# Altium integrated library Linear Technology Power Management Hot Swap Controllers.IntLib: 992 symbols (part 55 of 93)
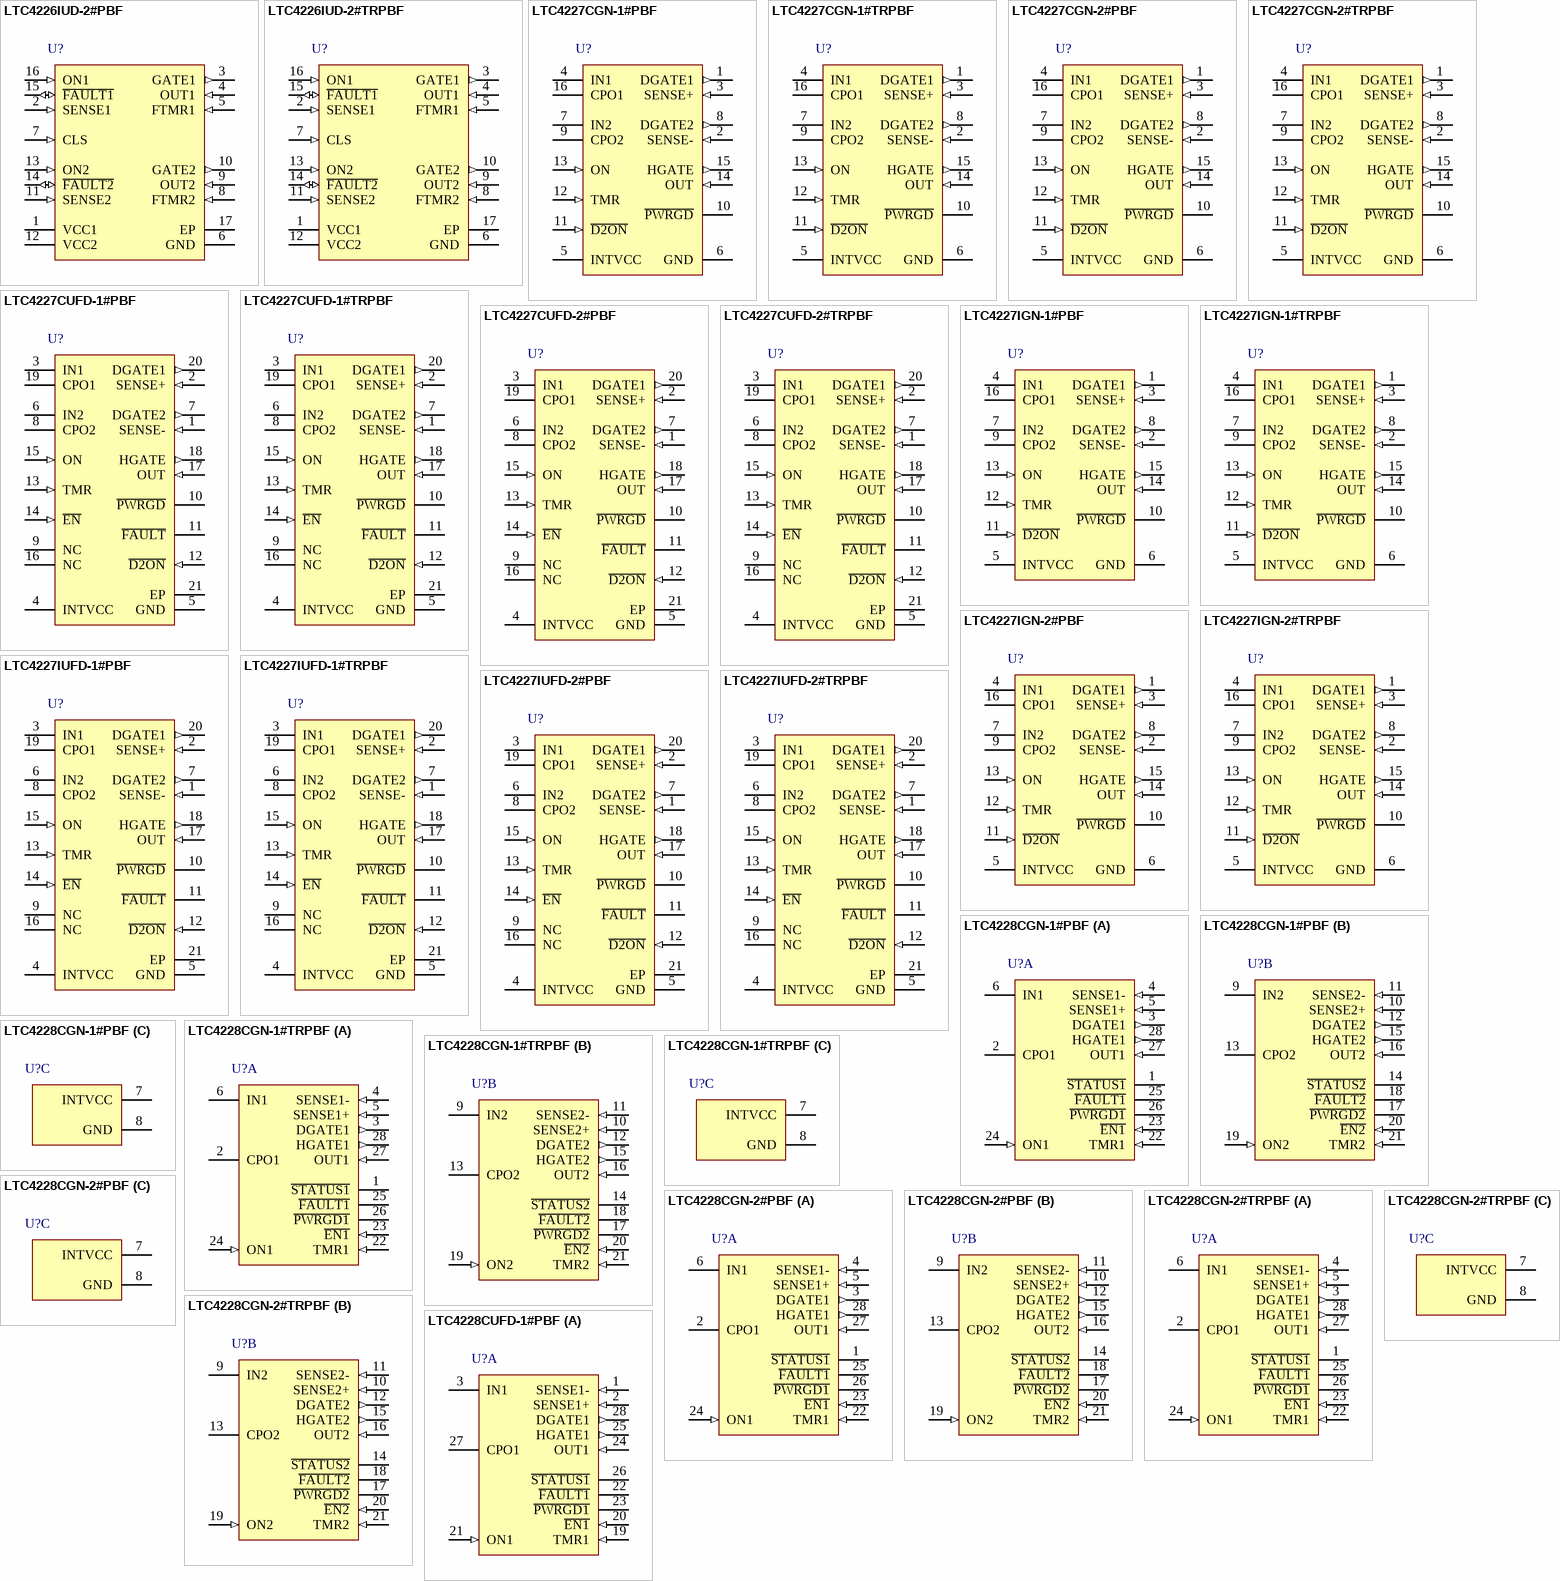
[diagram p91: symbols LTC4226IUD-2#PBF to LTC4228CUFD-1#PBF]

## LTC4228CGN-2#PBF
designator U?
Dual Ideal Diode and Hot Swap Controller, 2.9 to 18 V Vin, 28-pin SOP (GN-28), 0 to 70 degC, Pb-Free; Manufacturer: Linear Technology; PartNumber: LTC4228CGN-2#PBF; Active Limiting: yes; Circuit Breaker Threshold: 50 mV; Extended Temp: C, I; Foldback: no; PackageVersion: Rev. B, 03/2012; PackageReference: GN-28; PackageDescription: 28-Pin Plastic SSOP, Body 9.9 x 3.9 mm, Pitch 0.635 mm; Supplier 1: Digi-Key; Supplier Part Number 1: LTC4228CGN-2#PBF-ND; Supplier 2: Newark; Supplier Part Number 2: 44W6821; Fast Comparator: yes; Fault: yes; Power Good: yes; Reset: no; RoHS: TRUE; Vin Range: 2.9 to 18 V; Mounting Technology: Surface Mount; ComponentLink1Description: Manufacturer URL; ComponentLink1URL: http://www.linear.com/; ComponentLink2Description: Datasheet; ComponentLink2URL: http://cds.linear.com/docs/en/datasheet/422812f.pdf; ComponentLink3Description: Package Specification; ComponentLink3URL: http://cds.linear.com/docs/en/packaging/05081641_B_GN28.pdf
footprint LT-GN-28_N (SOP, 28-Leads, Body 9.98x3.98mm, Pitch 0.635mm, IPC Medium Density)
footprint LT-GN-28_L (SOP, 28-Leads, Body 9.98x3.98mm, Pitch 0.635mm, IPC High Density)
footprint LT-GN-28_M (SOP, 28-Leads, Body 9.98x3.98mm, Pitch 0.635mm, IPC Low Density)
part A pins: 1 ~{STATUS1} (oc) "Diode MOSFET Status Output. Open-drain output that is normally pulled high by a 10uA current source to a diode below INTVCC. It may be pulled above INTVCC using an external pull-up. It pulls low when the MOSFET gate drive (See Datasheet)", 2 CPO1 "Charge Pump Output. Connect a capacitor from CPO1 or CPO2 to the corresponding IN1 or IN2 pin. The value of this capacitor is approximately 10x the gate capacitance (CISS) of the external MOSFET for ideal diode control. The (See Datasheet)", 3 DGATE1 (out) "Ideal Diode MOSFET Gate Drive Output. Connect this pin to the gate of an external N-channel MOSFET for ideal diode control. An internal clamp limits the gate voltage to 12V above and a diode voltage below IN. During fast (See Datasheet)", 4 SENSE1- (in) "Negative Current Sense Input. Connect this pin to the output of the current sense resistor. The current limit circuit controls HGATE to limit the voltage between SENSE+ and SENSE- to 65mV. A circuit breaker trips when the (See Datasheet)", 5 SENSE1+ (in) "Positive Current Sense Input. Connect this pin to the output of the external ideal diode MOSFET and input of the current sense resistor. The voltage sensed at this pin is used for monitoring the current limit. This pin has (See Datasheet)", 6 IN1 (power) "Positive Supply Input and Ideal Diode’s MOSFET Gate Drive Return. The 5V INTVCC supply is generated from IN1, IN2, OUT1 and OUT2 via an internal diode-OR. The voltage sensed at this pin is used to control DGATE for forwar(See Datasheet)", 22 TMR1 (in) "Timer Capacitor Terminal. Connect a capacitor between this pin and ground to set a 12ms/uF duration for current limit before the external Hot Swap MOSFET is turned off. The duration of the off time is 617ms/uF, resulting in (See Datasheet)", 23 ~{EN1} (in) "Enable Input. Ground this pin to enable Hot Swap control. If this pin is pulled high, the MOSFET is not allowed to turn on. A 10uA current source pulls this pin up to a diode below INTVCC. Upon E\N\ going low when ON is (See Datasheet)", 24 ON1 (in) "On Control Input. A rising edge above 1.235V turns on the external Hot Swap MOSFET and a falling edge below 1.155V turns it off. Connect this pin to an external resistive divider from IN or SENSE+ to monitor the supply (See Datasheet)", 25 ~{FAULT1} (oc) "Fault Status Output. Open-drain output that is normally pulled high by a 10uA current source to a diode below INTVCC. It may be pulled above INTVCC using an external pull-up. It pulls low when the circuit breaker is tripped (See Datasheet)", 26 ~{PWRGD1} (oc) "Power Status Output. Open-drain output that is normally pulled high by a 10uA current source to a diode below INTVCC. It may be pulled above INTVCC using an external pull-up. It pulls low when the MOSFET gate drive between (See Datasheet)", 27 OUT1 (in) "Output Voltage Sense and Hot Swap’s MOSFET Gate Drive Return. Connect this pin to the output side of the external MOSFET. The voltage sensed at this pin is used to control DGATE. The gate fast pull-down current return(See Datasheet)", 28 HGATE1 (out) "Hot Swap MOSFET Gate Drive Output. Connect this pin to the gate of the external N-channel MOSFET for Hot Swap control. An internal 10uA current source charges the MOSFET gate. An internal clamp limits the gate voltage to 12V (See Datasheet)"
part B pins: 9 IN2 (power) "Positive Supply Input and Ideal Diode’s MOSFET Gate Drive Return. The 5V INTVCC supply is generated from IN1, IN2, OUT1 and OUT2 via an internal diode-OR. The voltage sensed at this pin is used to control DGATE for forwar(See Datasheet)", 10 SENSE2+ (in) "Positive Current Sense Input. Connect this pin to the output of the external ideal diode MOSFET and input of the current sense resistor. The voltage sensed at this pin is used for monitoring the current limit. This pin has (See Datasheet)", 11 SENSE2- (in) "Negative Current Sense Input. Connect this pin to the output of the current sense resistor. The current limit circuit controls HGATE to limit the voltage between SENSE+ and SENSE- to 65mV. A circuit breaker trips when the (See Datasheet)", 12 DGATE2 (out) "Ideal Diode MOSFET Gate Drive Output. Connect this pin to the gate of an external N-channel MOSFET for ideal diode control. An internal clamp limits the gate voltage to 12V above and a diode voltage below IN. During fast (See Datasheet)", 13 CPO2 "Charge Pump Output. Connect a capacitor from CPO1 or CPO2 to the corresponding IN1 or IN2 pin. The value of this capacitor is approximately 10x the gate capacitance (CISS) of the external MOSFET for ideal diode control. The (See Datasheet)", 14 ~{STATUS2} (oc) "Diode MOSFET Status Output. Open-drain output that is normally pulled high by a 10uA current source to a diode below INTVCC. It may be pulled above INTVCC using an external pull-up. It pulls low when the MOSFET gate drive (See Datasheet)", 15 HGATE2 (out) "Hot Swap MOSFET Gate Drive Output. Connect this pin to the gate of the external N-channel MOSFET for Hot Swap control. An internal 10uA current source charges the MOSFET gate. An internal clamp limits the gate voltage to 12V (See Datasheet)", 16 OUT2 (in) "Output Voltage Sense and Hot Swap’s MOSFET Gate Drive Return. Connect this pin to the output side of the external MOSFET. The voltage sensed at this pin is used to control DGATE. The gate fast pull-down current return(See Datasheet)", 17 ~{PWRGD2} (oc) "Power Status Output. Open-drain output that is normally pulled high by a 10uA current source to a diode below INTVCC. It may be pulled above INTVCC using an external pull-up. It pulls low when the MOSFET gate drive between (See Datasheet)", 18 ~{FAULT2} (oc) "Fault Status Output. Open-drain output that is normally pulled high by a 10uA current source to a diode below INTVCC. It may be pulled above INTVCC using an external pull-up. It pulls low when the circuit breaker is tripped (See Datasheet)", 19 ON2 (in) "On Control Input. A rising edge above 1.235V turns on the external Hot Swap MOSFET and a falling edge below 1.155V turns it off. Connect this pin to an external resistive divider from IN or SENSE+ to monitor the supply (See Datasheet)", 20 ~{EN2} (in) "Enable Input. Ground this pin to enable Hot Swap control. If this pin is pulled high, the MOSFET is not allowed to turn on. A 10uA current source pulls this pin up to a diode below INTVCC. Upon E\N\ going low when ON is (See Datasheet)", 21 TMR2 (in) "Timer Capacitor Terminal. Connect a capacitor between this pin and ground to set a 12ms/uF duration for current limit before the external Hot Swap MOSFET is turned off. The duration of the off time is 617ms/uF, resulting in (See Datasheet)"
part C pins: 7 INTVCC (power) "Internal 5V Supply Decoupling Output. This pin must have a 0.1uF or larger capacitor. An external load of less than 500uA can be connected at this pin.", 8 GND (power) "Device Ground"

## LTC4228CGN-2#TRPBF
designator U?
Dual Ideal Diode and Hot Swap Controller, 2.9 to 18 V Vin, 28-pin SOP (GN-28), 0 to 70 degC, Pb-Free, Tape and Reel; Manufacturer: Linear Technology; PartNumber: LTC4228CGN-2#TRPBF; Active Limiting: yes; Circuit Breaker Threshold: 50 mV; Extended Temp: C, I; Foldback: no; PackageVersion: Rev. B, 03/2012; PackageReference: GN-28; PackageDescription: 28-Pin Plastic SSOP, Body 9.9 x 3.9 mm, Pitch 0.635 mm; Supplier 1: Digi-Key; Supplier Part Number 1: LTC4228CGN-2#TRPBF-ND; Supplier 2: Newark; Supplier Part Number 2: 44W6822; Fast Comparator: yes; Fault: yes; Packing: Tape and Reel; Power Good: yes; Reset: no; RoHS: TRUE; Vin Range: 2.9 to 18 V; Mounting Technology: Surface Mount; ComponentLink1Description: Manufacturer URL; ComponentLink1URL: http://www.linear.com/; ComponentLink2Description: Datasheet; ComponentLink2URL: http://cds.linear.com/docs/en/datasheet/422812f.pdf; ComponentLink3Description: Package Specification; ComponentLink3URL: http://cds.linear.com/docs/en/packaging/05081641_B_GN28.pdf
footprint LT-GN-28_N (SOP, 28-Leads, Body 9.98x3.98mm, Pitch 0.635mm, IPC Medium Density)
footprint LT-GN-28_L (SOP, 28-Leads, Body 9.98x3.98mm, Pitch 0.635mm, IPC High Density)
footprint LT-GN-28_M (SOP, 28-Leads, Body 9.98x3.98mm, Pitch 0.635mm, IPC Low Density)
part A pins: 1 ~{STATUS1} (oc) "Diode MOSFET Status Output. Open-drain output that is normally pulled high by a 10uA current source to a diode below INTVCC. It may be pulled above INTVCC using an external pull-up. It pulls low when the MOSFET gate drive (See Datasheet)", 2 CPO1 "Charge Pump Output. Connect a capacitor from CPO1 or CPO2 to the corresponding IN1 or IN2 pin. The value of this capacitor is approximately 10x the gate capacitance (CISS) of the external MOSFET for ideal diode control. The (See Datasheet)", 3 DGATE1 (out) "Ideal Diode MOSFET Gate Drive Output. Connect this pin to the gate of an external N-channel MOSFET for ideal diode control. An internal clamp limits the gate voltage to 12V above and a diode voltage below IN. During fast (See Datasheet)", 4 SENSE1- (in) "Negative Current Sense Input. Connect this pin to the output of the current sense resistor. The current limit circuit controls HGATE to limit the voltage between SENSE+ and SENSE- to 65mV. A circuit breaker trips when the (See Datasheet)", 5 SENSE1+ (in) "Positive Current Sense Input. Connect this pin to the output of the external ideal diode MOSFET and input of the current sense resistor. The voltage sensed at this pin is used for monitoring the current limit. This pin has (See Datasheet)", 6 IN1 (power) "Positive Supply Input and Ideal Diode’s MOSFET Gate Drive Return. The 5V INTVCC supply is generated from IN1, IN2, OUT1 and OUT2 via an internal diode-OR. The voltage sensed at this pin is used to control DGATE for forwar(See Datasheet)", 22 TMR1 (in) "Timer Capacitor Terminal. Connect a capacitor between this pin and ground to set a 12ms/uF duration for current limit before the external Hot Swap MOSFET is turned off. The duration of the off time is 617ms/uF, resulting in (See Datasheet)", 23 ~{EN1} (in) "Enable Input. Ground this pin to enable Hot Swap control. If this pin is pulled high, the MOSFET is not allowed to turn on. A 10uA current source pulls this pin up to a diode below INTVCC. Upon E\N\ going low when ON is (See Datasheet)", 24 ON1 (in) "On Control Input. A rising edge above 1.235V turns on the external Hot Swap MOSFET and a falling edge below 1.155V turns it off. Connect this pin to an external resistive divider from IN or SENSE+ to monitor the supply (See Datasheet)", 25 ~{FAULT1} (oc) "Fault Status Output. Open-drain output that is normally pulled high by a 10uA current source to a diode below INTVCC. It may be pulled above INTVCC using an external pull-up. It pulls low when the circuit breaker is tripped (See Datasheet)", 26 ~{PWRGD1} (oc) "Power Status Output. Open-drain output that is normally pulled high by a 10uA current source to a diode below INTVCC. It may be pulled above INTVCC using an external pull-up. It pulls low when the MOSFET gate drive between (See Datasheet)", 27 OUT1 (in) "Output Voltage Sense and Hot Swap’s MOSFET Gate Drive Return. Connect this pin to the output side of the external MOSFET. The voltage sensed at this pin is used to control DGATE. The gate fast pull-down current return(See Datasheet)", 28 HGATE1 (out) "Hot Swap MOSFET Gate Drive Output. Connect this pin to the gate of the external N-channel MOSFET for Hot Swap control. An internal 10uA current source charges the MOSFET gate. An internal clamp limits the gate voltage to 12V (See Datasheet)"
part B pins: 9 IN2 (power) "Positive Supply Input and Ideal Diode’s MOSFET Gate Drive Return. The 5V INTVCC supply is generated from IN1, IN2, OUT1 and OUT2 via an internal diode-OR. The voltage sensed at this pin is used to control DGATE for forwar(See Datasheet)", 10 SENSE2+ (in) "Positive Current Sense Input. Connect this pin to the output of the external ideal diode MOSFET and input of the current sense resistor. The voltage sensed at this pin is used for monitoring the current limit. This pin has (See Datasheet)", 11 SENSE2- (in) "Negative Current Sense Input. Connect this pin to the output of the current sense resistor. The current limit circuit controls HGATE to limit the voltage between SENSE+ and SENSE- to 65mV. A circuit breaker trips when the (See Datasheet)", 12 DGATE2 (out) "Ideal Diode MOSFET Gate Drive Output. Connect this pin to the gate of an external N-channel MOSFET for ideal diode control. An internal clamp limits the gate voltage to 12V above and a diode voltage below IN. During fast (See Datasheet)", 13 CPO2 "Charge Pump Output. Connect a capacitor from CPO1 or CPO2 to the corresponding IN1 or IN2 pin. The value of this capacitor is approximately 10x the gate capacitance (CISS) of the external MOSFET for ideal diode control. The (See Datasheet)", 14 ~{STATUS2} (oc) "Diode MOSFET Status Output. Open-drain output that is normally pulled high by a 10uA current source to a diode below INTVCC. It may be pulled above INTVCC using an external pull-up. It pulls low when the MOSFET gate drive (See Datasheet)", 15 HGATE2 (out) "Hot Swap MOSFET Gate Drive Output. Connect this pin to the gate of the external N-channel MOSFET for Hot Swap control. An internal 10uA current source charges the MOSFET gate. An internal clamp limits the gate voltage to 12V (See Datasheet)", 16 OUT2 (in) "Output Voltage Sense and Hot Swap’s MOSFET Gate Drive Return. Connect this pin to the output side of the external MOSFET. The voltage sensed at this pin is used to control DGATE. The gate fast pull-down current return(See Datasheet)", 17 ~{PWRGD2} (oc) "Power Status Output. Open-drain output that is normally pulled high by a 10uA current source to a diode below INTVCC. It may be pulled above INTVCC using an external pull-up. It pulls low when the MOSFET gate drive between (See Datasheet)", 18 ~{FAULT2} (oc) "Fault Status Output. Open-drain output that is normally pulled high by a 10uA current source to a diode below INTVCC. It may be pulled above INTVCC using an external pull-up. It pulls low when the circuit breaker is tripped (See Datasheet)", 19 ON2 (in) "On Control Input. A rising edge above 1.235V turns on the external Hot Swap MOSFET and a falling edge below 1.155V turns it off. Connect this pin to an external resistive divider from IN or SENSE+ to monitor the supply (See Datasheet)", 20 ~{EN2} (in) "Enable Input. Ground this pin to enable Hot Swap control. If this pin is pulled high, the MOSFET is not allowed to turn on. A 10uA current source pulls this pin up to a diode below INTVCC. Upon E\N\ going low when ON is (See Datasheet)", 21 TMR2 (in) "Timer Capacitor Terminal. Connect a capacitor between this pin and ground to set a 12ms/uF duration for current limit before the external Hot Swap MOSFET is turned off. The duration of the off time is 617ms/uF, resulting in (See Datasheet)"
part C pins: 7 INTVCC (power) "Internal 5V Supply Decoupling Output. This pin must have a 0.1uF or larger capacitor. An external load of less than 500uA can be connected at this pin.", 8 GND (power) "Device Ground"

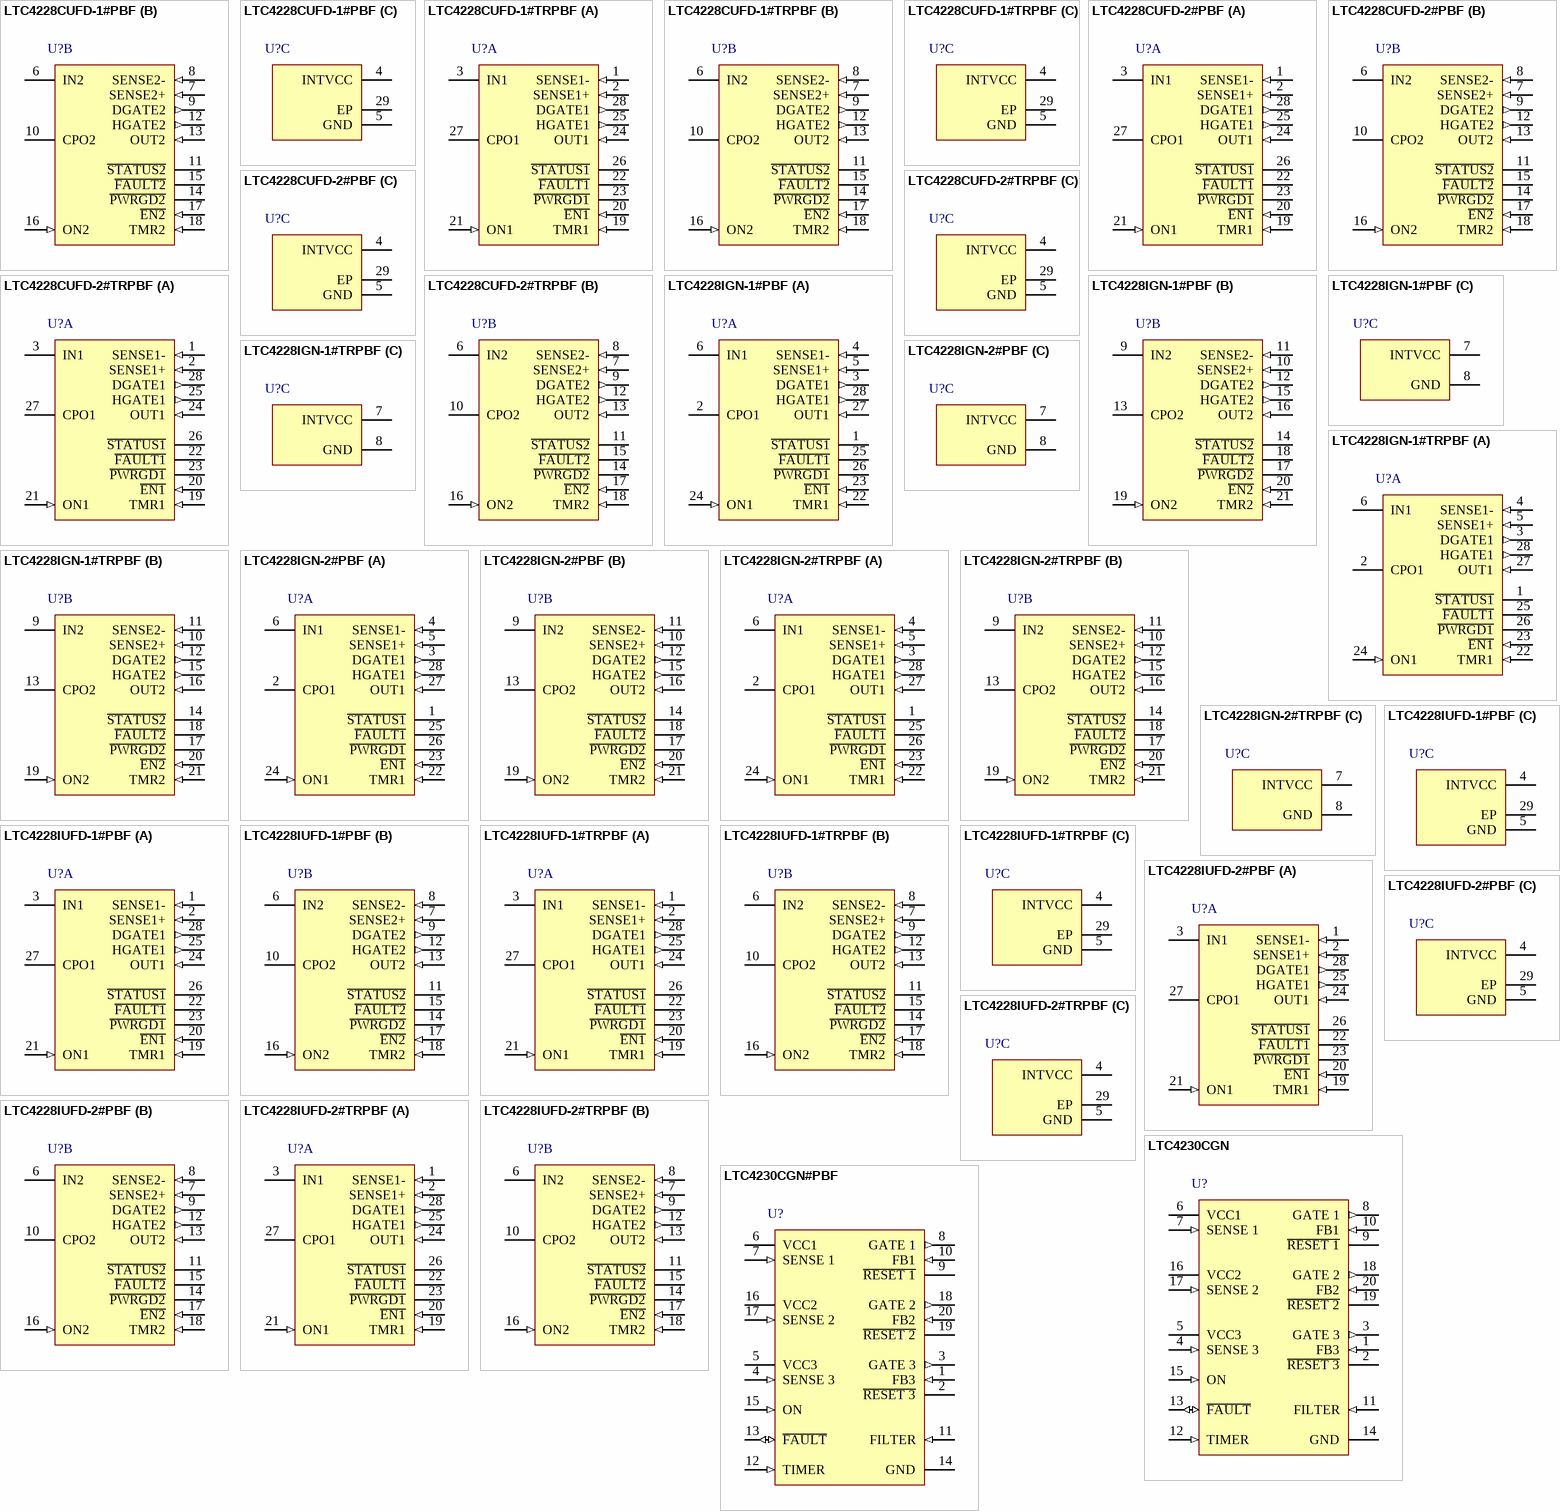
[diagram p22: symbols LTC4228CUFD-1#PBF to LTC4230CGN#PBF]

## LTC4228CUFD-1#PBF
designator U?
Dual Ideal Diode and Hot Swap Controller, 2.9 to 18 V Vin, 28-pin QFN (UFD-28), 0 to 70 degC, Pb-Free; Manufacturer: Linear Technology; PartNumber: LTC4228CUFD-1#PBF; Active Limiting: yes; Circuit Breaker Threshold: 50 mV; Extended Temp: C, I; Foldback: no; PackageVersion: Rev. B, 06/2010; PackageReference: UFD-28; PackageDescription: 28-Pin Plastic QFN, Body 5 x 4 mm, Pitch 0.5 mm; Supplier 1: Digi-Key; Supplier Part Number 1: LTC4228CUFD-1#PBF-ND; Supplier 2: Newark; Supplier Part Number 2: 44W6823; Fast Comparator: yes; Fault: yes; Power Good: yes; Reset: no; RoHS: TRUE; Vin Range: 2.9 to 18 V; Mounting Technology: Surface Mount; Code_JEDEC: MO-220; ComponentLink1Description: Manufacturer URL; ComponentLink1URL: http://www.linear.com/; ComponentLink2Description: Datasheet; ComponentLink2URL: http://cds.linear.com/docs/en/datasheet/422812f.pdf; ComponentLink3Description: Package Specification; ComponentLink3URL: http://cds.linear.com/docs/en/packaging/QFN_28_05-08-1712.pdf
footprint LT-UFD-28_N (QFN, 28-Leads, Body 5.1x4.1mm, Pitch 0.5mm, Thermal Pad 3.65x2.65mm, IPC Medium Density)
footprint LT-UFD-28_L (QFN, 28-Leads, Body 5.1x4.1mm, Pitch 0.5mm, Thermal Pad 3.65x2.65mm, IPC High Density)
footprint LT-UFD-28_M (QFN, 28-Leads, Body 5.1x4.1mm, Pitch 0.5mm, Thermal Pad 3.65x2.65mm, IPC Low Density)
part A pins: 1 SENSE1- (in) "Negative Current Sense Input. Connect this pin to the output of the current sense resistor. The current limit circuit controls HGATE to limit the voltage between SENSE+ and SENSE- to 65mV. A circuit breaker trips when the (See Datasheet)", 2 SENSE1+ (in) "Positive Current Sense Input. Connect this pin to the output of the external ideal diode MOSFET and input of the current sense resistor. The voltage sensed at this pin is used for monitoring the current limit. This pin has (See Datasheet)", 3 IN1 (power) "Positive Supply Input and Ideal Diode’s MOSFET Gate Drive Return. The 5V INTVCC supply is generated from IN1, IN2, OUT1 and OUT2 via an internal diode-OR. The voltage sensed at this pin is used to control DGATE for forwar(See Datasheet)", 19 TMR1 (in) "Timer Capacitor Terminal. Connect a capacitor between this pin and ground to set a 12ms/uF duration for current limit before the external Hot Swap MOSFET is turned off. The duration of the off time is 617ms/uF, resulting in (See Datasheet)", 20 ~{EN1} (in) "Enable Input. Ground this pin to enable Hot Swap control. If this pin is pulled high, the MOSFET is not allowed to turn on. A 10uA current source pulls this pin up to a diode below INTVCC. Upon E\N\ going low when ON is (See Datasheet)", 21 ON1 (in) "On Control Input. A rising edge above 1.235V turns on the external Hot Swap MOSFET and a falling edge below 1.155V turns it off. Connect this pin to an external resistive divider from IN or SENSE+ to monitor the supply (See Datasheet)", 22 ~{FAULT1} (oc) "Fault Status Output. Open-drain output that is normally pulled high by a 10uA current source to a diode below INTVCC. It may be pulled above INTVCC using an external pull-up. It pulls low when the circuit breaker is tripped (See Datasheet)", 23 ~{PWRGD1} (oc) "Power Status Output. Open-drain output that is normally pulled high by a 10uA current source to a diode below INTVCC. It may be pulled above INTVCC using an external pull-up. It pulls low when the MOSFET gate drive between (See Datasheet)", 24 OUT1 (in) "Output Voltage Sense and Hot Swap’s MOSFET Gate Drive Return. Connect this pin to the output side of the external MOSFET. The voltage sensed at this pin is used to control DGATE. The gate fast pull-down current return(See Datasheet)", 25 HGATE1 (out) "Hot Swap MOSFET Gate Drive Output. Connect this pin to the gate of the external N-channel MOSFET for Hot Swap control. An internal 10uA current source charges the MOSFET gate. An internal clamp limits the gate voltage to 12V (See Datasheet)", 26 ~{STATUS1} (oc) "Diode MOSFET Status Output. Open-drain output that is normally pulled high by a 10uA current source to a diode below INTVCC. It may be pulled above INTVCC using an external pull-up. It pulls low when the MOSFET gate drive (See Datasheet)", 27 CPO1 "Charge Pump Output. Connect a capacitor from CPO1 or CPO2 to the corresponding IN1 or IN2 pin. The value of this capacitor is approximately 10x the gate capacitance (CISS) of the external MOSFET for ideal diode control. The (See Datasheet)", 28 DGATE1 (out) "Ideal Diode MOSFET Gate Drive Output. Connect this pin to the gate of an external N-channel MOSFET for ideal diode control. An internal clamp limits the gate voltage to 12V above and a diode voltage below IN. During fast (See Datasheet)"
part B pins: 6 IN2 (power) "Positive Supply Input and Ideal Diode’s MOSFET Gate Drive Return. The 5V INTVCC supply is generated from IN1, IN2, OUT1 and OUT2 via an internal diode-OR. The voltage sensed at this pin is used to control DGATE for forwar(See Datasheet)", 7 SENSE2+ (in) "Positive Current Sense Input. Connect this pin to the output of the external ideal diode MOSFET and input of the current sense resistor. The voltage sensed at this pin is used for monitoring the current limit. This pin has (See Datasheet)", 8 SENSE2- (in) "Negative Current Sense Input. Connect this pin to the output of the current sense resistor. The current limit circuit controls HGATE to limit the voltage between SENSE+ and SENSE- to 65mV. A circuit breaker trips when the (See Datasheet)", 9 DGATE2 (out) "Ideal Diode MOSFET Gate Drive Output. Connect this pin to the gate of an external N-channel MOSFET for ideal diode control. An internal clamp limits the gate voltage to 12V above and a diode voltage below IN. During fast (See Datasheet)", 10 CPO2 "Charge Pump Output. Connect a capacitor from CPO1 or CPO2 to the corresponding IN1 or IN2 pin. The value of this capacitor is approximately 10x the gate capacitance (CISS) of the external MOSFET for ideal diode control. The (See Datasheet)", 11 ~{STATUS2} (oc) "Diode MOSFET Status Output. Open-drain output that is normally pulled high by a 10uA current source to a diode below INTVCC. It may be pulled above INTVCC using an external pull-up. It pulls low when the MOSFET gate drive (See Datasheet)", 12 HGATE2 (out) "Hot Swap MOSFET Gate Drive Output. Connect this pin to the gate of the external N-channel MOSFET for Hot Swap control. An internal 10uA current source charges the MOSFET gate. An internal clamp limits the gate voltage to 12V (See Datasheet)", 13 OUT2 (in) "Output Voltage Sense and Hot Swap’s MOSFET Gate Drive Return. Connect this pin to the output side of the external MOSFET. The voltage sensed at this pin is used to control DGATE. The gate fast pull-down current return(See Datasheet)", 14 ~{PWRGD2} (oc) "Power Status Output. Open-drain output that is normally pulled high by a 10uA current source to a diode below INTVCC. It may be pulled above INTVCC using an external pull-up. It pulls low when the MOSFET gate drive between (See Datasheet)", 15 ~{FAULT2} (oc) "Fault Status Output. Open-drain output that is normally pulled high by a 10uA current source to a diode below INTVCC. It may be pulled above INTVCC using an external pull-up. It pulls low when the circuit breaker is tripped (See Datasheet)", 16 ON2 (in) "On Control Input. A rising edge above 1.235V turns on the external Hot Swap MOSFET and a falling edge below 1.155V turns it off. Connect this pin to an external resistive divider from IN or SENSE+ to monitor the supply (See Datasheet)", 17 ~{EN2} (in) "Enable Input. Ground this pin to enable Hot Swap control. If this pin is pulled high, the MOSFET is not allowed to turn on. A 10uA current source pulls this pin up to a diode below INTVCC. Upon E\N\ going low when ON is (See Datasheet)", 18 TMR2 (in) "Timer Capacitor Terminal. Connect a capacitor between this pin and ground to set a 12ms/uF duration for current limit before the external Hot Swap MOSFET is turned off. The duration of the off time is 617ms/uF, resulting in (See Datasheet)"
part C pins: 4 INTVCC (power) "Internal 5V Supply Decoupling Output. This pin must have a 0.1uF or larger capacitor. An external load of less than 500uA can be connected at this pin.", 5 GND (power) "Device Ground", 29 EP (power) "The exposed pad may be left open or connected to device ground"

## LTC4228CUFD-1#TRPBF
designator U?
Dual Ideal Diode and Hot Swap Controller, 2.9 to 18 V Vin, 28-pin QFN (UFD-28), 0 to 70 degC, Pb-Free, Tape and Reel; Manufacturer: Linear Technology; PartNumber: LTC4228CUFD-1#TRPBF; Active Limiting: yes; Circuit Breaker Threshold: 50 mV; Extended Temp: C, I; Foldback: no; PackageVersion: Rev. B, 06/2010; PackageReference: UFD-28; PackageDescription: 28-Pin Plastic QFN, Body 5 x 4 mm, Pitch 0.5 mm; Supplier 1: Digi-Key; Supplier Part Number 1: LTC4228CUFD-1#TRPBF-ND; Supplier 2: Newark; Supplier Part Number 2: 44W6824; Fast Comparator: yes; Fault: yes; Packing: Tape and Reel; Power Good: yes; Reset: no; RoHS: TRUE; Vin Range: 2.9 to 18 V; Mounting Technology: Surface Mount; Code_JEDEC: MO-220; ComponentLink1Description: Manufacturer URL; ComponentLink1URL: http://www.linear.com/; ComponentLink2Description: Datasheet; ComponentLink2URL: http://cds.linear.com/docs/en/datasheet/422812f.pdf; ComponentLink3Description: Package Specification; ComponentLink3URL: http://cds.linear.com/docs/en/packaging/QFN_28_05-08-1712.pdf
footprint LT-UFD-28_N (QFN, 28-Leads, Body 5.1x4.1mm, Pitch 0.5mm, Thermal Pad 3.65x2.65mm, IPC Medium Density)
footprint LT-UFD-28_L (QFN, 28-Leads, Body 5.1x4.1mm, Pitch 0.5mm, Thermal Pad 3.65x2.65mm, IPC High Density)
footprint LT-UFD-28_M (QFN, 28-Leads, Body 5.1x4.1mm, Pitch 0.5mm, Thermal Pad 3.65x2.65mm, IPC Low Density)
part A pins: 1 SENSE1- (in) "Negative Current Sense Input. Connect this pin to the output of the current sense resistor. The current limit circuit controls HGATE to limit the voltage between SENSE+ and SENSE- to 65mV. A circuit breaker trips when the (See Datasheet)", 2 SENSE1+ (in) "Positive Current Sense Input. Connect this pin to the output of the external ideal diode MOSFET and input of the current sense resistor. The voltage sensed at this pin is used for monitoring the current limit. This pin has (See Datasheet)", 3 IN1 (power) "Positive Supply Input and Ideal Diode’s MOSFET Gate Drive Return. The 5V INTVCC supply is generated from IN1, IN2, OUT1 and OUT2 via an internal diode-OR. The voltage sensed at this pin is used to control DGATE for forwar(See Datasheet)", 19 TMR1 (in) "Timer Capacitor Terminal. Connect a capacitor between this pin and ground to set a 12ms/uF duration for current limit before the external Hot Swap MOSFET is turned off. The duration of the off time is 617ms/uF, resulting in (See Datasheet)", 20 ~{EN1} (in) "Enable Input. Ground this pin to enable Hot Swap control. If this pin is pulled high, the MOSFET is not allowed to turn on. A 10uA current source pulls this pin up to a diode below INTVCC. Upon E\N\ going low when ON is (See Datasheet)", 21 ON1 (in) "On Control Input. A rising edge above 1.235V turns on the external Hot Swap MOSFET and a falling edge below 1.155V turns it off. Connect this pin to an external resistive divider from IN or SENSE+ to monitor the supply (See Datasheet)", 22 ~{FAULT1} (oc) "Fault Status Output. Open-drain output that is normally pulled high by a 10uA current source to a diode below INTVCC. It may be pulled above INTVCC using an external pull-up. It pulls low when the circuit breaker is tripped (See Datasheet)", 23 ~{PWRGD1} (oc) "Power Status Output. Open-drain output that is normally pulled high by a 10uA current source to a diode below INTVCC. It may be pulled above INTVCC using an external pull-up. It pulls low when the MOSFET gate drive between (See Datasheet)", 24 OUT1 (in) "Output Voltage Sense and Hot Swap’s MOSFET Gate Drive Return. Connect this pin to the output side of the external MOSFET. The voltage sensed at this pin is used to control DGATE. The gate fast pull-down current return(See Datasheet)", 25 HGATE1 (out) "Hot Swap MOSFET Gate Drive Output. Connect this pin to the gate of the external N-channel MOSFET for Hot Swap control. An internal 10uA current source charges the MOSFET gate. An internal clamp limits the gate voltage to 12V (See Datasheet)", 26 ~{STATUS1} (oc) "Diode MOSFET Status Output. Open-drain output that is normally pulled high by a 10uA current source to a diode below INTVCC. It may be pulled above INTVCC using an external pull-up. It pulls low when the MOSFET gate drive (See Datasheet)", 27 CPO1 "Charge Pump Output. Connect a capacitor from CPO1 or CPO2 to the corresponding IN1 or IN2 pin. The value of this capacitor is approximately 10x the gate capacitance (CISS) of the external MOSFET for ideal diode control. The (See Datasheet)", 28 DGATE1 (out) "Ideal Diode MOSFET Gate Drive Output. Connect this pin to the gate of an external N-channel MOSFET for ideal diode control. An internal clamp limits the gate voltage to 12V above and a diode voltage below IN. During fast (See Datasheet)"
part B pins: 6 IN2 (power) "Positive Supply Input and Ideal Diode’s MOSFET Gate Drive Return. The 5V INTVCC supply is generated from IN1, IN2, OUT1 and OUT2 via an internal diode-OR. The voltage sensed at this pin is used to control DGATE for forwar(See Datasheet)", 7 SENSE2+ (in) "Positive Current Sense Input. Connect this pin to the output of the external ideal diode MOSFET and input of the current sense resistor. The voltage sensed at this pin is used for monitoring the current limit. This pin has (See Datasheet)", 8 SENSE2- (in) "Negative Current Sense Input. Connect this pin to the output of the current sense resistor. The current limit circuit controls HGATE to limit the voltage between SENSE+ and SENSE- to 65mV. A circuit breaker trips when the (See Datasheet)", 9 DGATE2 (out) "Ideal Diode MOSFET Gate Drive Output. Connect this pin to the gate of an external N-channel MOSFET for ideal diode control. An internal clamp limits the gate voltage to 12V above and a diode voltage below IN. During fast (See Datasheet)", 10 CPO2 "Charge Pump Output. Connect a capacitor from CPO1 or CPO2 to the corresponding IN1 or IN2 pin. The value of this capacitor is approximately 10x the gate capacitance (CISS) of the external MOSFET for ideal diode control. The (See Datasheet)", 11 ~{STATUS2} (oc) "Diode MOSFET Status Output. Open-drain output that is normally pulled high by a 10uA current source to a diode below INTVCC. It may be pulled above INTVCC using an external pull-up. It pulls low when the MOSFET gate drive (See Datasheet)", 12 HGATE2 (out) "Hot Swap MOSFET Gate Drive Output. Connect this pin to the gate of the external N-channel MOSFET for Hot Swap control. An internal 10uA current source charges the MOSFET gate. An internal clamp limits the gate voltage to 12V (See Datasheet)", 13 OUT2 (in) "Output Voltage Sense and Hot Swap’s MOSFET Gate Drive Return. Connect this pin to the output side of the external MOSFET. The voltage sensed at this pin is used to control DGATE. The gate fast pull-down current return(See Datasheet)", 14 ~{PWRGD2} (oc) "Power Status Output. Open-drain output that is normally pulled high by a 10uA current source to a diode below INTVCC. It may be pulled above INTVCC using an external pull-up. It pulls low when the MOSFET gate drive between (See Datasheet)", 15 ~{FAULT2} (oc) "Fault Status Output. Open-drain output that is normally pulled high by a 10uA current source to a diode below INTVCC. It may be pulled above INTVCC using an external pull-up. It pulls low when the circuit breaker is tripped (See Datasheet)", 16 ON2 (in) "On Control Input. A rising edge above 1.235V turns on the external Hot Swap MOSFET and a falling edge below 1.155V turns it off. Connect this pin to an external resistive divider from IN or SENSE+ to monitor the supply (See Datasheet)", 17 ~{EN2} (in) "Enable Input. Ground this pin to enable Hot Swap control. If this pin is pulled high, the MOSFET is not allowed to turn on. A 10uA current source pulls this pin up to a diode below INTVCC. Upon E\N\ going low when ON is (See Datasheet)", 18 TMR2 (in) "Timer Capacitor Terminal. Connect a capacitor between this pin and ground to set a 12ms/uF duration for current limit before the external Hot Swap MOSFET is turned off. The duration of the off time is 617ms/uF, resulting in (See Datasheet)"
part C pins: 4 INTVCC (power) "Internal 5V Supply Decoupling Output. This pin must have a 0.1uF or larger capacitor. An external load of less than 500uA can be connected at this pin.", 5 GND (power) "Device Ground", 29 EP (power) "The exposed pad may be left open or connected to device ground"

## LTC4228CUFD-2#PBF
designator U?
Dual Ideal Diode and Hot Swap Controller, 2.9 to 18 V Vin, 28-pin QFN (UFD-28), 0 to 70 degC, Pb-Free; Manufacturer: Linear Technology; PartNumber: LTC4228CUFD-2#PBF; Active Limiting: yes; Circuit Breaker Threshold: 50 mV; Extended Temp: C, I; Foldback: no; PackageVersion: Rev. B, 06/2010; PackageReference: UFD-28; PackageDescription: 28-Pin Plastic QFN, Body 5 x 4 mm, Pitch 0.5 mm; Supplier 1: Digi-Key; Supplier Part Number 1: LTC4228CUFD-2#PBF-ND; Supplier 2: Newark; Supplier Part Number 2: 44W6825; Fast Comparator: yes; Fault: yes; Power Good: yes; Reset: no; RoHS: TRUE; Vin Range: 2.9 to 18 V; Mounting Technology: Surface Mount; Code_JEDEC: MO-220; ComponentLink1Description: Manufacturer URL; ComponentLink1URL: http://www.linear.com/; ComponentLink2Description: Datasheet; ComponentLink2URL: http://cds.linear.com/docs/en/datasheet/422812f.pdf; ComponentLink3Description: Package Specification; ComponentLink3URL: http://cds.linear.com/docs/en/packaging/QFN_28_05-08-1712.pdf
footprint LT-UFD-28_N (QFN, 28-Leads, Body 5.1x4.1mm, Pitch 0.5mm, Thermal Pad 3.65x2.65mm, IPC Medium Density)
footprint LT-UFD-28_L (QFN, 28-Leads, Body 5.1x4.1mm, Pitch 0.5mm, Thermal Pad 3.65x2.65mm, IPC High Density)
footprint LT-UFD-28_M (QFN, 28-Leads, Body 5.1x4.1mm, Pitch 0.5mm, Thermal Pad 3.65x2.65mm, IPC Low Density)
part A pins: 1 SENSE1- (in) "Negative Current Sense Input. Connect this pin to the output of the current sense resistor. The current limit circuit controls HGATE to limit the voltage between SENSE+ and SENSE- to 65mV. A circuit breaker trips when the (See Datasheet)", 2 SENSE1+ (in) "Positive Current Sense Input. Connect this pin to the output of the external ideal diode MOSFET and input of the current sense resistor. The voltage sensed at this pin is used for monitoring the current limit. This pin has (See Datasheet)", 3 IN1 (power) "Positive Supply Input and Ideal Diode’s MOSFET Gate Drive Return. The 5V INTVCC supply is generated from IN1, IN2, OUT1 and OUT2 via an internal diode-OR. The voltage sensed at this pin is used to control DGATE for forwar(See Datasheet)", 19 TMR1 (in) "Timer Capacitor Terminal. Connect a capacitor between this pin and ground to set a 12ms/uF duration for current limit before the external Hot Swap MOSFET is turned off. The duration of the off time is 617ms/uF, resulting in (See Datasheet)", 20 ~{EN1} (in) "Enable Input. Ground this pin to enable Hot Swap control. If this pin is pulled high, the MOSFET is not allowed to turn on. A 10uA current source pulls this pin up to a diode below INTVCC. Upon E\N\ going low when ON is (See Datasheet)", 21 ON1 (in) "On Control Input. A rising edge above 1.235V turns on the external Hot Swap MOSFET and a falling edge below 1.155V turns it off. Connect this pin to an external resistive divider from IN or SENSE+ to monitor the supply (See Datasheet)", 22 ~{FAULT1} (oc) "Fault Status Output. Open-drain output that is normally pulled high by a 10uA current source to a diode below INTVCC. It may be pulled above INTVCC using an external pull-up. It pulls low when the circuit breaker is tripped (See Datasheet)", 23 ~{PWRGD1} (oc) "Power Status Output. Open-drain output that is normally pulled high by a 10uA current source to a diode below INTVCC. It may be pulled above INTVCC using an external pull-up. It pulls low when the MOSFET gate drive between (See Datasheet)", 24 OUT1 (in) "Output Voltage Sense and Hot Swap’s MOSFET Gate Drive Return. Connect this pin to the output side of the external MOSFET. The voltage sensed at this pin is used to control DGATE. The gate fast pull-down current return(See Datasheet)", 25 HGATE1 (out) "Hot Swap MOSFET Gate Drive Output. Connect this pin to the gate of the external N-channel MOSFET for Hot Swap control. An internal 10uA current source charges the MOSFET gate. An internal clamp limits the gate voltage to 12V (See Datasheet)", 26 ~{STATUS1} (oc) "Diode MOSFET Status Output. Open-drain output that is normally pulled high by a 10uA current source to a diode below INTVCC. It may be pulled above INTVCC using an external pull-up. It pulls low when the MOSFET gate drive (See Datasheet)", 27 CPO1 "Charge Pump Output. Connect a capacitor from CPO1 or CPO2 to the corresponding IN1 or IN2 pin. The value of this capacitor is approximately 10x the gate capacitance (CISS) of the external MOSFET for ideal diode control. The (See Datasheet)", 28 DGATE1 (out) "Ideal Diode MOSFET Gate Drive Output. Connect this pin to the gate of an external N-channel MOSFET for ideal diode control. An internal clamp limits the gate voltage to 12V above and a diode voltage below IN. During fast (See Datasheet)"
part B pins: 6 IN2 (power) "Positive Supply Input and Ideal Diode’s MOSFET Gate Drive Return. The 5V INTVCC supply is generated from IN1, IN2, OUT1 and OUT2 via an internal diode-OR. The voltage sensed at this pin is used to control DGATE for forwar(See Datasheet)", 7 SENSE2+ (in) "Positive Current Sense Input. Connect this pin to the output of the external ideal diode MOSFET and input of the current sense resistor. The voltage sensed at this pin is used for monitoring the current limit. This pin has (See Datasheet)", 8 SENSE2- (in) "Negative Current Sense Input. Connect this pin to the output of the current sense resistor. The current limit circuit controls HGATE to limit the voltage between SENSE+ and SENSE- to 65mV. A circuit breaker trips when the (See Datasheet)", 9 DGATE2 (out) "Ideal Diode MOSFET Gate Drive Output. Connect this pin to the gate of an external N-channel MOSFET for ideal diode control. An internal clamp limits the gate voltage to 12V above and a diode voltage below IN. During fast (See Datasheet)", 10 CPO2 "Charge Pump Output. Connect a capacitor from CPO1 or CPO2 to the corresponding IN1 or IN2 pin. The value of this capacitor is approximately 10x the gate capacitance (CISS) of the external MOSFET for ideal diode control. The (See Datasheet)", 11 ~{STATUS2} (oc) "Diode MOSFET Status Output. Open-drain output that is normally pulled high by a 10uA current source to a diode below INTVCC. It may be pulled above INTVCC using an external pull-up. It pulls low when the MOSFET gate drive (See Datasheet)", 12 HGATE2 (out) "Hot Swap MOSFET Gate Drive Output. Connect this pin to the gate of the external N-channel MOSFET for Hot Swap control. An internal 10uA current source charges the MOSFET gate. An internal clamp limits the gate voltage to 12V (See Datasheet)", 13 OUT2 (in) "Output Voltage Sense and Hot Swap’s MOSFET Gate Drive Return. Connect this pin to the output side of the external MOSFET. The voltage sensed at this pin is used to control DGATE. The gate fast pull-down current return(See Datasheet)", 14 ~{PWRGD2} (oc) "Power Status Output. Open-drain output that is normally pulled high by a 10uA current source to a diode below INTVCC. It may be pulled above INTVCC using an external pull-up. It pulls low when the MOSFET gate drive between (See Datasheet)", 15 ~{FAULT2} (oc) "Fault Status Output. Open-drain output that is normally pulled high by a 10uA current source to a diode below INTVCC. It may be pulled above INTVCC using an external pull-up. It pulls low when the circuit breaker is tripped (See Datasheet)", 16 ON2 (in) "On Control Input. A rising edge above 1.235V turns on the external Hot Swap MOSFET and a falling edge below 1.155V turns it off. Connect this pin to an external resistive divider from IN or SENSE+ to monitor the supply (See Datasheet)", 17 ~{EN2} (in) "Enable Input. Ground this pin to enable Hot Swap control. If this pin is pulled high, the MOSFET is not allowed to turn on. A 10uA current source pulls this pin up to a diode below INTVCC. Upon E\N\ going low when ON is (See Datasheet)", 18 TMR2 (in) "Timer Capacitor Terminal. Connect a capacitor between this pin and ground to set a 12ms/uF duration for current limit before the external Hot Swap MOSFET is turned off. The duration of the off time is 617ms/uF, resulting in (See Datasheet)"
part C pins: 4 INTVCC (power) "Internal 5V Supply Decoupling Output. This pin must have a 0.1uF or larger capacitor. An external load of less than 500uA can be connected at this pin.", 5 GND (power) "Device Ground", 29 EP (power) "The exposed pad may be left open or connected to device ground"

## LTC4228CUFD-2#TRPBF
designator U?
Dual Ideal Diode and Hot Swap Controller, 2.9 to 18 V Vin, 28-pin QFN (UFD-28), 0 to 70 degC, Pb-Free, Tape and Reel; Manufacturer: Linear Technology; PartNumber: LTC4228CUFD-2#TRPBF; Active Limiting: yes; Circuit Breaker Threshold: 50 mV; Extended Temp: C, I; Foldback: no; PackageVersion: Rev. B, 06/2010; PackageReference: UFD-28; PackageDescription: 28-Pin Plastic QFN, Body 5 x 4 mm, Pitch 0.5 mm; Supplier 1: Digi-Key; Supplier Part Number 1: LTC4228CUFD-2#TRPBF-ND; Supplier 2: Newark; Supplier Part Number 2: 44W6826; Fast Comparator: yes; Fault: yes; Packing: Tape and Reel; Power Good: yes; Reset: no; RoHS: TRUE; Vin Range: 2.9 to 18 V; Mounting Technology: Surface Mount; Code_JEDEC: MO-220; ComponentLink1Description: Manufacturer URL; ComponentLink1URL: http://www.linear.com/; ComponentLink2Description: Datasheet; ComponentLink2URL: http://cds.linear.com/docs/en/datasheet/422812f.pdf; ComponentLink3Description: Package Specification; ComponentLink3URL: http://cds.linear.com/docs/en/packaging/QFN_28_05-08-1712.pdf
footprint LT-UFD-28_N (QFN, 28-Leads, Body 5.1x4.1mm, Pitch 0.5mm, Thermal Pad 3.65x2.65mm, IPC Medium Density)
footprint LT-UFD-28_L (QFN, 28-Leads, Body 5.1x4.1mm, Pitch 0.5mm, Thermal Pad 3.65x2.65mm, IPC High Density)
footprint LT-UFD-28_M (QFN, 28-Leads, Body 5.1x4.1mm, Pitch 0.5mm, Thermal Pad 3.65x2.65mm, IPC Low Density)
part A pins: 1 SENSE1- (in) "Negative Current Sense Input. Connect this pin to the output of the current sense resistor. The current limit circuit controls HGATE to limit the voltage between SENSE+ and SENSE- to 65mV. A circuit breaker trips when the (See Datasheet)", 2 SENSE1+ (in) "Positive Current Sense Input. Connect this pin to the output of the external ideal diode MOSFET and input of the current sense resistor. The voltage sensed at this pin is used for monitoring the current limit. This pin has (See Datasheet)", 3 IN1 (power) "Positive Supply Input and Ideal Diode’s MOSFET Gate Drive Return. The 5V INTVCC supply is generated from IN1, IN2, OUT1 and OUT2 via an internal diode-OR. The voltage sensed at this pin is used to control DGATE for forwar(See Datasheet)", 19 TMR1 (in) "Timer Capacitor Terminal. Connect a capacitor between this pin and ground to set a 12ms/uF duration for current limit before the external Hot Swap MOSFET is turned off. The duration of the off time is 617ms/uF, resulting in (See Datasheet)", 20 ~{EN1} (in) "Enable Input. Ground this pin to enable Hot Swap control. If this pin is pulled high, the MOSFET is not allowed to turn on. A 10uA current source pulls this pin up to a diode below INTVCC. Upon E\N\ going low when ON is (See Datasheet)", 21 ON1 (in) "On Control Input. A rising edge above 1.235V turns on the external Hot Swap MOSFET and a falling edge below 1.155V turns it off. Connect this pin to an external resistive divider from IN or SENSE+ to monitor the supply (See Datasheet)", 22 ~{FAULT1} (oc) "Fault Status Output. Open-drain output that is normally pulled high by a 10uA current source to a diode below INTVCC. It may be pulled above INTVCC using an external pull-up. It pulls low when the circuit breaker is tripped (See Datasheet)", 23 ~{PWRGD1} (oc) "Power Status Output. Open-drain output that is normally pulled high by a 10uA current source to a diode below INTVCC. It may be pulled above INTVCC using an external pull-up. It pulls low when the MOSFET gate drive between (See Datasheet)", 24 OUT1 (in) "Output Voltage Sense and Hot Swap’s MOSFET Gate Drive Return. Connect this pin to the output side of the external MOSFET. The voltage sensed at this pin is used to control DGATE. The gate fast pull-down current return(See Datasheet)", 25 HGATE1 (out) "Hot Swap MOSFET Gate Drive Output. Connect this pin to the gate of the external N-channel MOSFET for Hot Swap control. An internal 10uA current source charges the MOSFET gate. An internal clamp limits the gate voltage to 12V (See Datasheet)", 26 ~{STATUS1} (oc) "Diode MOSFET Status Output. Open-drain output that is normally pulled high by a 10uA current source to a diode below INTVCC. It may be pulled above INTVCC using an external pull-up. It pulls low when the MOSFET gate drive (See Datasheet)", 27 CPO1 "Charge Pump Output. Connect a capacitor from CPO1 or CPO2 to the corresponding IN1 or IN2 pin. The value of this capacitor is approximately 10x the gate capacitance (CISS) of the external MOSFET for ideal diode control. The (See Datasheet)", 28 DGATE1 (out) "Ideal Diode MOSFET Gate Drive Output. Connect this pin to the gate of an external N-channel MOSFET for ideal diode control. An internal clamp limits the gate voltage to 12V above and a diode voltage below IN. During fast (See Datasheet)"
part B pins: 6 IN2 (power) "Positive Supply Input and Ideal Diode’s MOSFET Gate Drive Return. The 5V INTVCC supply is generated from IN1, IN2, OUT1 and OUT2 via an internal diode-OR. The voltage sensed at this pin is used to control DGATE for forwar(See Datasheet)", 7 SENSE2+ (in) "Positive Current Sense Input. Connect this pin to the output of the external ideal diode MOSFET and input of the current sense resistor. The voltage sensed at this pin is used for monitoring the current limit. This pin has (See Datasheet)", 8 SENSE2- (in) "Negative Current Sense Input. Connect this pin to the output of the current sense resistor. The current limit circuit controls HGATE to limit the voltage between SENSE+ and SENSE- to 65mV. A circuit breaker trips when the (See Datasheet)", 9 DGATE2 (out) "Ideal Diode MOSFET Gate Drive Output. Connect this pin to the gate of an external N-channel MOSFET for ideal diode control. An internal clamp limits the gate voltage to 12V above and a diode voltage below IN. During fast (See Datasheet)", 10 CPO2 "Charge Pump Output. Connect a capacitor from CPO1 or CPO2 to the corresponding IN1 or IN2 pin. The value of this capacitor is approximately 10x the gate capacitance (CISS) of the external MOSFET for ideal diode control. The (See Datasheet)", 11 ~{STATUS2} (oc) "Diode MOSFET Status Output. Open-drain output that is normally pulled high by a 10uA current source to a diode below INTVCC. It may be pulled above INTVCC using an external pull-up. It pulls low when the MOSFET gate drive (See Datasheet)", 12 HGATE2 (out) "Hot Swap MOSFET Gate Drive Output. Connect this pin to the gate of the external N-channel MOSFET for Hot Swap control. An internal 10uA current source charges the MOSFET gate. An internal clamp limits the gate voltage to 12V (See Datasheet)", 13 OUT2 (in) "Output Voltage Sense and Hot Swap’s MOSFET Gate Drive Return. Connect this pin to the output side of the external MOSFET. The voltage sensed at this pin is used to control DGATE. The gate fast pull-down current return(See Datasheet)", 14 ~{PWRGD2} (oc) "Power Status Output. Open-drain output that is normally pulled high by a 10uA current source to a diode below INTVCC. It may be pulled above INTVCC using an external pull-up. It pulls low when the MOSFET gate drive between (See Datasheet)", 15 ~{FAULT2} (oc) "Fault Status Output. Open-drain output that is normally pulled high by a 10uA current source to a diode below INTVCC. It may be pulled above INTVCC using an external pull-up. It pulls low when the circuit breaker is tripped (See Datasheet)", 16 ON2 (in) "On Control Input. A rising edge above 1.235V turns on the external Hot Swap MOSFET and a falling edge below 1.155V turns it off. Connect this pin to an external resistive divider from IN or SENSE+ to monitor the supply (See Datasheet)", 17 ~{EN2} (in) "Enable Input. Ground this pin to enable Hot Swap control. If this pin is pulled high, the MOSFET is not allowed to turn on. A 10uA current source pulls this pin up to a diode below INTVCC. Upon E\N\ going low when ON is (See Datasheet)", 18 TMR2 (in) "Timer Capacitor Terminal. Connect a capacitor between this pin and ground to set a 12ms/uF duration for current limit before the external Hot Swap MOSFET is turned off. The duration of the off time is 617ms/uF, resulting in (See Datasheet)"
part C pins: 4 INTVCC (power) "Internal 5V Supply Decoupling Output. This pin must have a 0.1uF or larger capacitor. An external load of less than 500uA can be connected at this pin.", 5 GND (power) "Device Ground", 29 EP (power) "The exposed pad may be left open or connected to device ground"